# Altium footprint library footprints.PCBLIB: 171 footprints (part 6 of 11)
Each footprint in its own frame and in the unit in brackets; x right, y up, seen from the top. Pads: shape width x height; smd on the part's side, far side on the other; paste and mask are expansions set on the pad; w line width, h text height; cw(c..) or ccw(c..) is an arc to the next point about the centre after c.
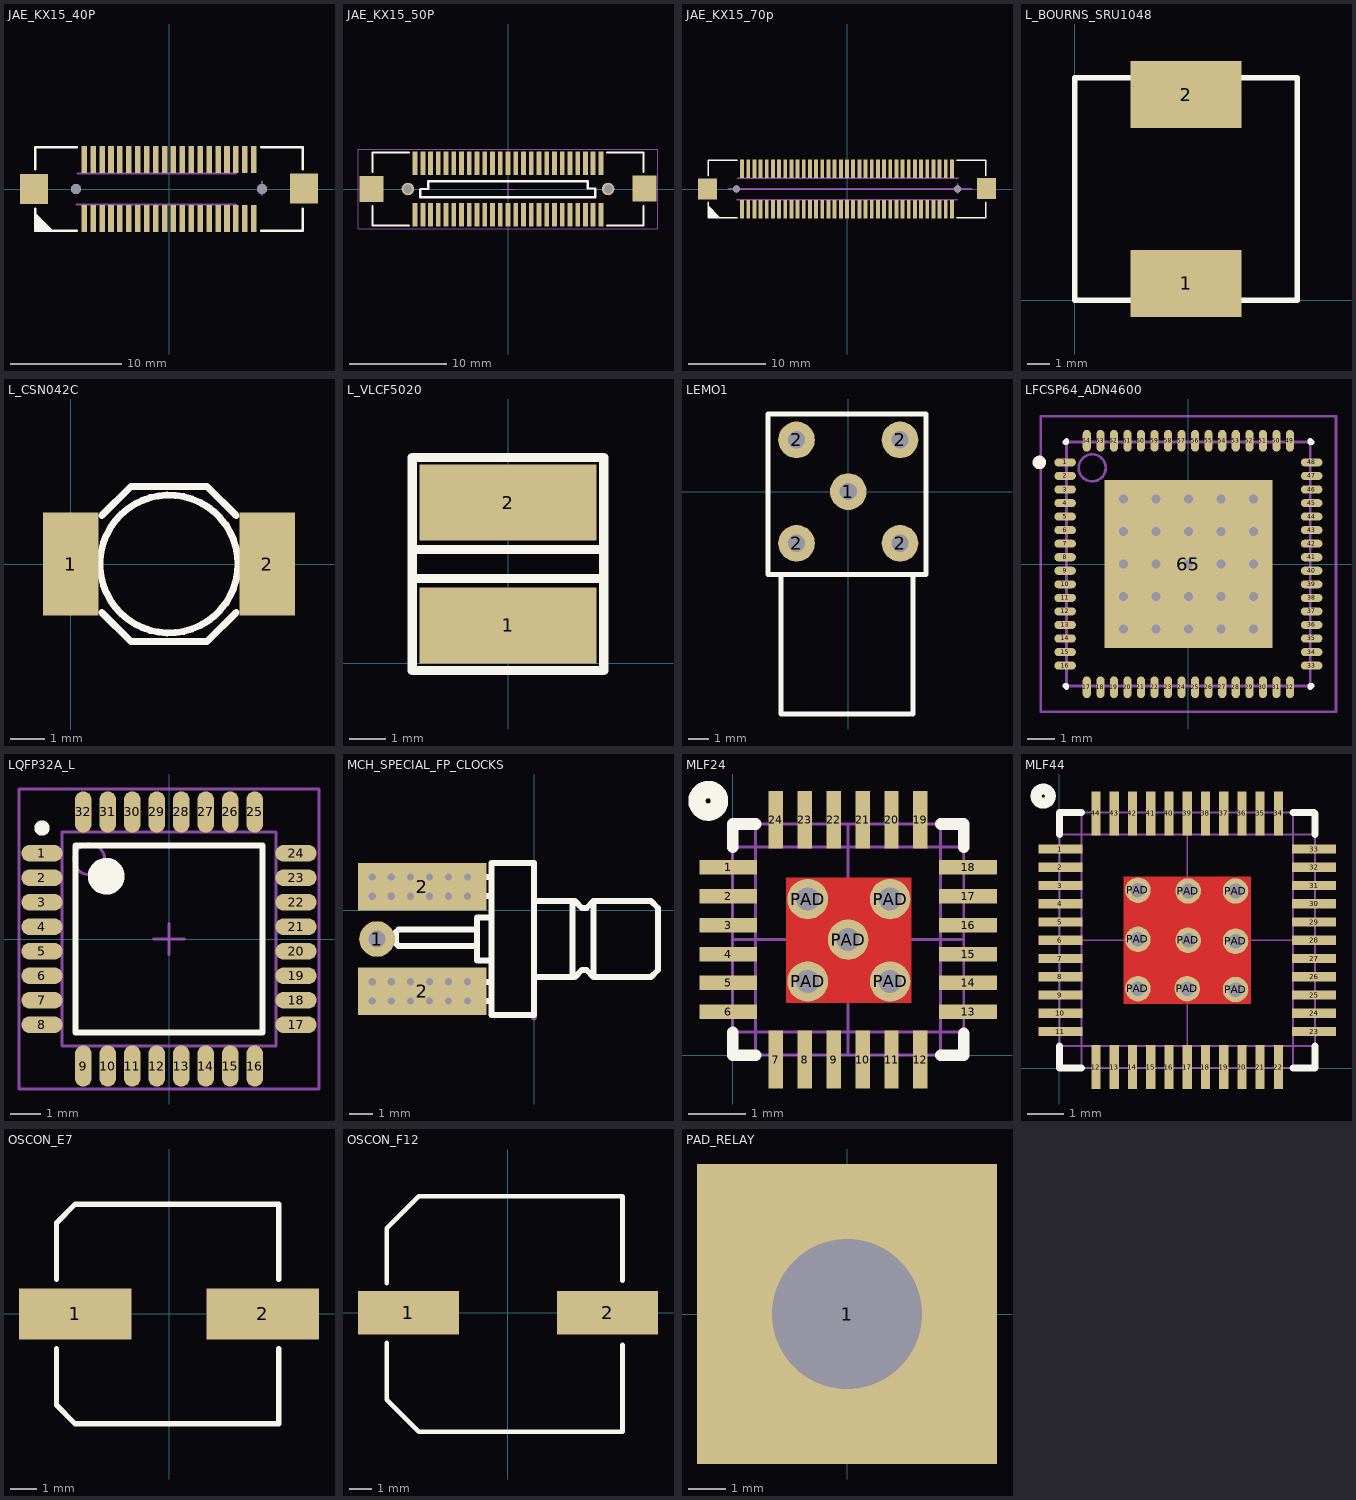
[diagram p5: the footprints below, top view; thin cyan lines are the x and y axes]

## JAE_KX15_40P [mm]
pads (44):
  rect 0.5x2.4 smd: 1(-7.6,2.65) 2(-7.6,-2.65) 3(-6.8,2.65) 4(-6.8,-2.65) 5(-6,2.65) 6(-6,-2.65) 7(-5.2,2.65) 8(-5.2,-2.65) 9(-4.4,2.65) 10(-4.4,-2.65) 11(-3.6,2.65) 12(-3.6,-2.65) 13(-2.8,2.65) 14(-2.8,-2.65) 15(-2,2.65) 16(-2,-2.65) 17(-1.2,2.65) 18(-1.2,-2.65) 19(-0.4,2.65) 20(-0.4,-2.65) 21(0.4,2.65) 22(0.4,-2.65) 23(1.2,2.65) 24(1.2,-2.65) 25(2,2.65) 26(2,-2.65) 27(2.8,2.65) 28(2.8,-2.65) 29(3.6,2.65) 30(3.6,-2.65) 31(4.4,2.65) 32(4.4,-2.65) 33(5.2,2.65) 34(5.2,-2.65) 35(6,2.65) 36(6,-2.65) 37(6.8,2.65) 38(6.8,-2.65) 39(7.6,2.65) 40(7.6,-2.65)
  rect 2.5x2.7 smd: ""(-12.1,0) ""(12.1,0.05)
  round 0.9 hole 0.9: ""(-8.35,0) ""(8.35,0)
Top Overlay:
  region: -12,-2.25 -12,-3.75 -10.5,-3.75
  lines w0.2: -12,-2.25 -10.5,-3.75 ; -12,-1.75 -12,-3.75 -8.25,-3.75 ; -12,1.75 -12,3.75 -8.25,3.75 ; 8.25,-3.75 12,-3.75 12,-1.75 ; 8.25,3.75 12,3.75 12,1.75
Mechanical 15:
  lines w0.2: -8.35,-0.35 -8.35,0.35 ; -8.3,-1.4 6,-1.4 ; -8.2,1.4 6,1.4 ; 8.35,-0.55 8.35,0.65

## JAE_KX15_50P [mm]
pads (54):
  rect 0.5x2.4 smd: 1(-9.6,2.65) 2(-9.6,-2.65) 3(-8.8,2.65) 4(-8.8,-2.65) 5(-8,2.65) 6(-8,-2.65) 7(-7.2,2.65) 8(-7.2,-2.65) 9(-6.4,2.65) 10(-6.4,-2.65) 11(-5.6,2.65) 12(-5.6,-2.65) 13(-4.8,2.65) 14(-4.8,-2.65) 15(-4,2.65) 16(-4,-2.65) 17(-3.2,2.65) 18(-3.2,-2.65) 19(-2.4,2.65) 20(-2.4,-2.65) 21(-1.6,2.65) 22(-1.6,-2.65) 23(-0.8,2.65) 24(-0.8,-2.65) 25(0,2.65) 26(0,-2.65) 27(0.8,2.65) 28(0.8,-2.65) 29(1.6,2.65) 30(1.6,-2.65) 31(2.4,2.65) 32(2.4,-2.65) 33(3.2,2.65) 34(3.2,-2.65) 35(4,2.65) 36(4,-2.65) 37(4.8,2.65) 38(4.8,-2.65) 39(5.6,2.65) 40(5.6,-2.65) 41(6.4,2.65) 42(6.4,-2.65) 43(7.2,2.65) 44(7.2,-2.65) 45(8,2.65) 46(8,-2.65) 47(8.8,2.65) 48(8.8,-2.65) 49(9.6,2.65) 50(9.6,-2.65)
  rect 2.5x2.7 smd: ""(-14.1,0) ""(14.1,0.05)
  round 1.3 hole 0.9: ""(-10.35,0) ""(10.35,0)
Top Overlay:
  lines w0.2: -14,-1.75 -14,-3.75 -10.25,-3.75 ; -14,1.75 -14,3.75 -10.25,3.75 ; 10.25,-3.75 14,-3.75 14,-1.75 ; 10.25,3.75 14,3.75 14,1.75
  lines w0.254: -9.05,-0.85 9,-0.85 9,0.05 8.25,0.05 8.25,0.8 -8.25,0.8 -8.25,0 -9,0 -9.05,-0.05 -9.05,-0.85
Mechanical 15:
  lines w0.05: -15.5,1 -15.5,4.1 15.5,4.1 15.5,-4.1 15.4,-4.1 -15.5,-4.1 -15.5,-3.9 -15.5,1.2 ; -0.7,0 0.7,0 ; 0,-0.7 0,0.7

## JAE_KX15_70p [mm]
pads (74):
  rect 0.5x2.4 smd: 1(-13.6,2.65) 2(-13.6,-2.65) 3(-12.8,2.65) 4(-12.8,-2.65) 5(-12,2.65) 6(-12,-2.65) 7(-11.2,2.65) 8(-11.2,-2.65) 9(-10.4,2.65) 10(-10.4,-2.65) 11(-9.6,2.65) 12(-9.6,-2.65) 13(-8.8,2.65) 14(-8.8,-2.65) 15(-8,2.65) 16(-8,-2.65) 17(-7.2,2.65) 18(-7.2,-2.65) 19(-6.4,2.65) 20(-6.4,-2.65) 21(-5.6,2.65) 22(-5.6,-2.65) 23(-4.8,2.65) 24(-4.8,-2.65) 25(-4,2.65) 26(-4,-2.65) 27(-3.2,2.65) 28(-3.2,-2.65) 29(-2.4,2.65) 30(-2.4,-2.65) 31(-1.6,2.65) 32(-1.6,-2.65) 33(-0.8,2.65) 34(-0.8,-2.65) 35(0,2.65) 36(0,-2.65) 37(0.8,2.65) 38(0.8,-2.65) 39(1.6,2.65) 40(1.6,-2.65) 41(2.4,2.65) 42(2.4,-2.65) 43(3.2,2.65) 44(3.2,-2.65) 45(4,2.65) 46(4,-2.65) 47(4.8,2.65) 48(4.8,-2.65) 49(5.6,2.65) 50(5.6,-2.65) 51(6.4,2.65) 52(6.4,-2.65) 53(7.2,2.65) 54(7.2,-2.65) 55(8,2.65) 56(8,-2.65) 57(8.8,2.65) 58(8.8,-2.65) 59(9.6,2.65) 60(9.6,-2.65) 61(10.4,2.65) 62(10.4,-2.65) 63(11.2,2.65) 64(11.2,-2.65) 65(12,2.65) 66(12,-2.65) 67(12.8,2.65) 68(12.8,-2.65) 69(13.6,2.65) 70(13.6,-2.65)
  rect 2.5x2.7 smd: ""(-18.1,0) ""(18.1,0.05)
  round 0.9 hole 0.9: ""(-14.35,0) ""(14.35,0)
Top Overlay:
  region: -18,-2.25 -18,-3.75 -16.5,-3.75
  lines w0.2: -18,-2.25 -16.5,-3.75 ; -18,-1.75 -18,-3.75 -14.25,-3.75 ; -18,1.75 -18,3.75 -14.25,3.75 ; 14.25,-3.75 18,-3.75 18,-1.75 ; 14.25,3.75 18,3.75 18,1.75
Mechanical 15:
  lines w0.2: -15.4,0 16.2,0 ; -14.35,-0.35 -14.35,0.35 ; -14.3,-1.4 0,-1.4 14.3,-1.4 ; -14.2,1.4 0,1.4 ; -0.1,1.4 14.4,1.4 ; 14.35,-0.55 14.35,0.65

## L_BOURNS_SRU1048 [mm]
pads (2):
  rect 5x3 smd: 1(5,0.75) 2(5,9.25)
Top Overlay:
  lines w0.254: 0,0 9.9,0 10,0 10,10 0,10 0,0

## L_CSN042C [mm] "Choke Power CSN042C"
pads (2):
  rect 1.6x3 smd: 1(0,0) 2(5.7,0)
Top Overlay:
  circle w0.2: c2.85,0 r2
  lines w0.2: 0.9,-1.4 1.75,-2.25 1.85,-2.25 3.85,-2.25 3.95,-2.25 4.8,-1.4 ; 0.9,1.4 1.75,2.25 1.85,2.25 3.85,2.25 3.95,2.25 4.8,1.4

## L_VLCF5020 [mm]
pads (2):
  rect 4.9x2.1 smd: 1(0,1.05) 2(0,4.45)
Top Overlay:
  lines w0.254: -2.6,2.35 2.65,2.35 ; -2.6,3.15 2.6,3.15 ; -2.65,-0.2 2.65,-0.2 2.65,5.7 -2.65,5.7 -2.65,-0.15 -2.65,-0.2

## LEMO1 [mm]
pads (5):
  round 1.8 hole 0.85: 1(0,0) 2(-2.54,-2.54) 2(-2.54,2.54) 2(2.54,-2.54) 2(2.54,2.54)
Top Overlay:
  lines w0.254: -3.302,-4.064 -3.302,-10.922 3.048,-10.922 ; 3.175,-10.922 3.175,-4.064 ; -3.937,-4.064 -3.683,-4.064 3.556,-4.064 3.81,-4.064 3.81,3.81 -3.937,3.81 -3.937,-3.81 -3.937,-4.064

## LFCSP64_ADN4600 [mm] "LFCSP64_ADN4600"
height 0.8
pads (65):
  oval 0.8x0.3 smd: 1(-4.55,3.75) 2(-4.55,3.25) 3(-4.55,2.75) 4(-4.55,2.25) 5(-4.55,1.75) 6(-4.55,1.25) 7(-4.55,0.75) 8(-4.55,0.25) 9(-4.55,-0.25) 10(-4.55,-0.75) 11(-4.55,-1.25) 12(-4.55,-1.75) 13(-4.55,-2.25) 14(-4.55,-2.75) 15(-4.55,-3.25) 16(-4.55,-3.75) 33(4.55,-3.75) 34(4.55,-3.25) 35(4.55,-2.75) 36(4.55,-2.25) 37(4.55,-1.75) 38(4.55,-1.25) 39(4.55,-0.75) 40(4.55,-0.25) 41(4.55,0.25) 42(4.55,0.75) 43(4.55,1.25) 44(4.55,1.75) 45(4.55,2.25) 46(4.55,2.75) 47(4.55,3.25) 48(4.55,3.75)
  oval 0.3x0.8 smd: 17(-3.75,-4.55) 18(-3.25,-4.55) 19(-2.75,-4.55) 20(-2.25,-4.55) 21(-1.75,-4.55) 22(-1.25,-4.55) 23(-0.75,-4.55) 24(-0.25,-4.55) 25(0.25,-4.55) 26(0.75,-4.55) 27(1.25,-4.55) 28(1.75,-4.55) 29(2.25,-4.55) 30(2.75,-4.55) 31(3.25,-4.55) 32(3.75,-4.55) 49(3.75,4.55) 50(3.25,4.55) 51(2.75,4.55) 52(2.25,4.55) 53(1.75,4.55) 54(1.25,4.55) 55(0.75,4.55) 56(0.25,4.55) 57(-0.25,4.55) 58(-0.75,4.55) 59(-1.25,4.55) 60(-1.75,4.55) 61(-2.25,4.55) 62(-2.75,4.55) 63(-3.25,4.55) 64(-3.75,4.55)
  rect 6.2x6.2 smd paste-200: 65(0,0)
via 2.4,-2.4 diameter 0.66 hole 0.33
via 1.2,-2.4 diameter 0.66 hole 0.33
via 0,-2.4 diameter 0.66 hole 0.33
via -1.2,-2.4 diameter 0.66 hole 0.33
via -2.4,-2.4 diameter 0.66 hole 0.33
via 2.4,-1.2 diameter 0.66 hole 0.33
via 1.2,-1.2 diameter 0.66 hole 0.33
via 0,-1.2 diameter 0.66 hole 0.33
via -1.2,-1.2 diameter 0.66 hole 0.33
via -2.4,-1.2 diameter 0.66 hole 0.33
via 2.4,0 diameter 0.66 hole 0.33
via 1.2,0 diameter 0.66 hole 0.33
via 0,0 diameter 0.66 hole 0.33
via -1.2,0 diameter 0.66 hole 0.33
via -2.4,0 diameter 0.66 hole 0.33
via 2.4,1.2 diameter 0.66 hole 0.33
via 1.2,1.2 diameter 0.66 hole 0.33
via 0,1.2 diameter 0.66 hole 0.33
via -1.2,1.2 diameter 0.66 hole 0.33
via -2.4,1.2 diameter 0.66 hole 0.33
via 2.4,2.4 diameter 0.66 hole 0.33
via 1.2,2.4 diameter 0.66 hole 0.33
via 0,2.4 diameter 0.66 hole 0.33
via -1.2,2.4 diameter 0.66 hole 0.33
via -2.4,2.4 diameter 0.66 hole 0.33
Top Overlay:
  circle w0.25: c-5.5,3.75 r0.125
  lines w0.2: -4.55,-4.5 -4.5,-4.5 -4.5,-4.55 ; -4.55,4.5 -4.5,4.5 -4.5,4.55 ; 4.5,-4.55 4.5,-4.5 4.55,-4.5 ; 4.5,4.55 4.5,4.5 4.55,4.5
Top Paste:
  rectangle: -3.05,0.25 -0.25,3.05
  rectangle: 0.25,0.25 3.05,3.05
  rectangle: 0.25,-3.05 3.05,-0.25
  rectangle: -3.05,-3.05 -0.25,-0.25
Mechanical 13:
  circle w0.1: c-3.55,3.55 r0.5
  lines w0.1: -4.5,-4.5 4.5,-4.5 4.5,4.5 -4.5,4.5 -4.5,-4.5
Mechanical 15:
  lines w0.1: -0.5,0 0.5,0 ; 0,-0.5 0,0.5 ; -5.45,-5.45 5.45,-5.45 5.45,5.45 -5.45,5.45 -5.45,-5.45
3D body: height 0.8, standoff 0.01, extent -4.5,-4.5 4.5,4.5

## LQFP32A_L [mm] "Thin QFP, 32-Leads, Body 7x7mm, Pitch 0.8mm, IPC High Density"
height 1.2
pads (32):
  oval 1.35x0.55 smd: 1(-4.15,2.8) 2(-4.15,2) 3(-4.15,1.2) 4(-4.15,0.4) 5(-4.15,-0.4) 6(-4.15,-1.2) 7(-4.15,-2) 8(-4.15,-2.8) 17(4.15,-2.8) 18(4.15,-2) 19(4.15,-1.2) 20(4.15,-0.4) 21(4.15,0.4) 22(4.15,1.2) 23(4.15,2) 24(4.15,2.8)
  oval 0.55x1.35 smd: 9(-2.8,-4.15) 10(-2,-4.15) 11(-1.2,-4.15) 12(-0.4,-4.15) 13(0.4,-4.15) 14(1.2,-4.15) 15(2,-4.15) 16(2.8,-4.15) 25(2.8,4.15) 26(2,4.15) 27(1.2,4.15) 28(0.4,4.15) 29(-0.4,4.15) 30(-1.2,4.15) 31(-2,4.15) 32(-2.8,4.15)
Top Overlay:
  circle w0.25: c-4.15,3.625 r0.125
  circle w0.6: c-2.05,2.05 r0.3
  lines w0.2: -3.05,-3.05 -3.05,3.05 3.05,3.05 3.05,-3.05 -3.05,-3.05
Mechanical 13:
  circle w0.1: c-2.6,2.6 r0.5
  lines w0.1: -3.5,-3.5 -3.5,3.5 3.5,3.5 3.5,-3.5 -3.5,-3.5
Mechanical 15:
  lines w0.1: -0.5,0 0.5,0 ; 0,-0.5 0,0.5 ; -4.9,-4.9 -4.9,4.9 4.9,4.9 4.9,-4.9 -4.9,-4.9
3D body: height 1.2, standoff 0, extent -3.5,-3.5 3.5,3.5

## MCH_SPECIAL_FP_CLOCKS [mm]
pads (3):
  round 1.5 hole 0.7 paste-1000: 1(-6.6,-1.2)
  rect 5.4x2 smd paste-1000: 2(-4.7,-3.4) 2(-4.7,1)
via -6.8,-3 diameter 0.61 hole 0.305
via -6,-3 diameter 0.61 hole 0.305
via -5.2,-3 diameter 0.61 hole 0.305
via -4.4,-3 diameter 0.61 hole 0.305
via -3.6,-3 diameter 0.61 hole 0.305
via -2.8,-3 diameter 0.61 hole 0.305
via -2.8,-3.8 diameter 0.61 hole 0.305
via -3.6,-3.8 diameter 0.61 hole 0.305
via -4.4,-3.8 diameter 0.61 hole 0.305
via -5.2,-3.8 diameter 0.61 hole 0.305
via -6,-3.8 diameter 0.61 hole 0.305
via -6.8,-3.8 diameter 0.61 hole 0.305
via -6.8,0.6 diameter 0.61 hole 0.305
via -6,0.6 diameter 0.61 hole 0.305
via -5.2,0.6 diameter 0.61 hole 0.305
via -4.4,0.6 diameter 0.61 hole 0.305
via -3.6,0.6 diameter 0.61 hole 0.305
via -2.8,0.6 diameter 0.61 hole 0.305
via -2.8,1.4 diameter 0.61 hole 0.305
via -3.6,1.4 diameter 0.61 hole 0.305
via -4.4,1.4 diameter 0.61 hole 0.305
via -5.2,1.4 diameter 0.61 hole 0.305
via -6,1.4 diameter 0.61 hole 0.305
via -6.8,1.4 diameter 0.61 hole 0.305
Top Overlay:
  lines w0.25: -2.5,-1.5 -5.7,-1.5 -5.8,-1.4 -5.8,-0.9 ; -2.5,-0.8 -5.7,-0.8 -5.8,-0.9 ; -1.9,-3.8 -6.8,-3.8 -6.8,-3 -1.8,-3 ; -1.9,-2.1 -2.4,-2.1 -2.4,-0.3 -1.8,-0.3 ; -1.9,0.6 -6.7,0.6 -6.8,0.6 ; -1.8,1.4 -6.8,1.4 ; 0,-2.8 1.7,-2.8 2,-2.5 2.2,-2.5 2.5,-2.8 4.9,-2.8 5.2,-2.5 5.2,-1.1 ; 0,0.4 1.7,0.4 2,0.1 2.2,0.1 2.5,0.4 ; 1.6,-2.8 1.6,0.4 ; 2.5,-2.7 2.5,0.4 ; 5.2,-1.3 5.2,0.1 4.9,0.4 2.5,0.4 ; -6.8,0.6 -6.8,1.4 ; -6.8,0.6 -6.8,1.4 ; -6.8,0.6 -6.8,1.4 ; -5.8,-0.9 -5.8,-0.9 ; -1.8,-4.4 -1.8,2 0,2 0,-4.4 -1.8,-4.4
Mechanical 13:
  lines w0.25: 0,-4.5 0,2

## MLF24 [mm]
pads (29):
  rect 1x0.25 smd: 1(-0.075,3.25) 2(-0.075,2.75) 3(-0.075,2.25) 4(-0.075,1.75) 5(-0.075,1.25) 6(-0.075,0.75) 13(4.075,0.75) 14(4.075,1.25) 15(4.075,1.75) 16(4.075,2.25) 17(4.075,2.75) 18(4.075,3.25)
  rect 0.25x1 smd: 7(0.75,-0.075) 8(1.25,-0.075) 9(1.75,-0.075) 10(2.25,-0.075) 11(2.75,-0.075) 12(3.25,-0.075) 19(3.25,4.075) 20(2.75,4.075) 21(2.25,4.075) 22(1.75,4.075) 23(1.25,4.075) 24(0.75,4.075)
  round 0.7 hole 0.4: PAD(1.3,1.275) PAD(1.3,2.7) PAD(2,2) PAD(2.725,1.275) PAD(2.725,2.7)
Top Layer:
  rectangle: 0.925,0.9 3.1,3.075
Top Overlay:
  circle w0.3: c-0.42,4.4 r0.195
  lines w0.2: 0,0.4 0,0 0.4,0 ; 0,3.6 0,4 0.4,4 ; 3.6,0 4,0 4,0.375 ; 3.6,4 4,4 4,3.6
Top Solder:
  rectangle: 0.825,0.8 3.2,3.175
Mechanical 15:
  lines w0.05: 0,0.4 3.975,0.4 ; 0,2 4,2 ; 0,3.6 4,3.6 ; 0.4,0 0.4,4 ; 2,0 2,4 ; 3.6,0 3.6,4 ; 0,0 4,0 4,4 0,4 0,0

## MLF44 [mm]
pads (53):
  rect 1.2x0.25 smd: 1(0.025,6) 2(0.025,5.5) 3(0.025,5) 4(0.025,4.5) 5(0.025,4) 6(0.025,3.5) 7(0.025,3) 8(0.025,2.5) 9(0.025,2) 10(0.025,1.5) 11(0.025,1) 23(6.975,1) 24(6.975,1.5) 25(6.975,2) 26(6.975,2.5) 27(6.975,3) 28(6.975,3.5) 29(6.975,4) 30(6.975,4.5) 31(6.975,5) 32(6.975,5.5) 33(6.975,6)
  rect 0.25x1.2 smd: 12(1,0.025) 13(1.5,0.025) 14(2,0.025) 15(2.5,0.025) 16(3,0.025) 17(3.5,0.025) 18(4,0.025) 19(4.5,0.025) 20(5,0.025) 21(5.5,0.025) 22(6,0.025) 34(6,6.975) 35(5.5,6.975) 36(5,6.975) 37(4.5,6.975) 38(4,6.975) 39(3.5,6.975) 40(3,6.975) 41(2.5,6.975) 42(2,6.975) 43(1.5,6.975) 44(1,6.975)
  round 0.7 hole 0.4: PAD(2.15,2.175) PAD(2.15,3.525) PAD(2.15,4.875) PAD(3.5,2.175) PAD(3.525,3.5) PAD(3.525,4.85) PAD(4.825,2.15) PAD(4.825,3.475) PAD(4.825,4.85)
Top Layer:
  rectangle: 1.75,1.75 5.25,5.25
Top Overlay:
  circle w0.3: c-0.445,7.45 r0.195
  lines w0.2: 0,0 0,0.6 ; 0,6.4 0,7 0.6,7 ; 0.025,0 0.6,0 ; 6.4,0 7,0 7,0.6 ; 6.4,7 6.975,7 7,6.975 7,6.4
Top Solder:
  rectangle: 1.675,1.675 5.325,5.325
Mechanical 15:
  lines w0.05: 0,0.6 7,0.6 ; 0,3.5 7,3.5 ; 0,6.4 7,6.4 ; 0.6,0 0.6,7 ; 3.5,0 3.5,7 ; 6.4,0 6.4,7 ; 0,0 7,0 7,7 0,7 0,0

## MLF64 [mm]

## OSCON_E7 [mm]
pads (2):
  rect 4.2x1.9 smd: 1(-3.5,0) 2(3.5,0)
Top Overlay:
  lines w0.2: -4.2,-1.3 -4.2,-3.4 -3.5,-4.1 4.1,-4.1 4.1,-1.3 ; -4.2,1.3 -4.2,3.4 -3.5,4.1 4.1,4.1 4.1,1.3

## OSCON_F12 [mm]
pads (2):
  rect 4.4x1.9 smd: 1(-4.35,0) 2(4.35,0)
Top Overlay:
  lines w0.2: -5.3,-1.3 -5.3,-3.8 -3.9,-5.2 5,-5.2 5,-1.4 ; -5.3,1.3 -5.3,3.7 -3.9,5.1 5,5.1 5,1.4

## PAD_RELAY [mm]
pads (1):
  rect 8x8 hole 4: 1(0,0)